# Altium footprint library 电声元件.PcbLib: 2 footprints
Each footprint in its own frame and in the unit in brackets; x right, y up, seen from the top. Pads: shape width x height; smd on the part's side, far side on the other; paste and mask are expansions set on the pad; w line width, h text height; cw(c..) or ccw(c..) is an arc to the next point about the centre after c.
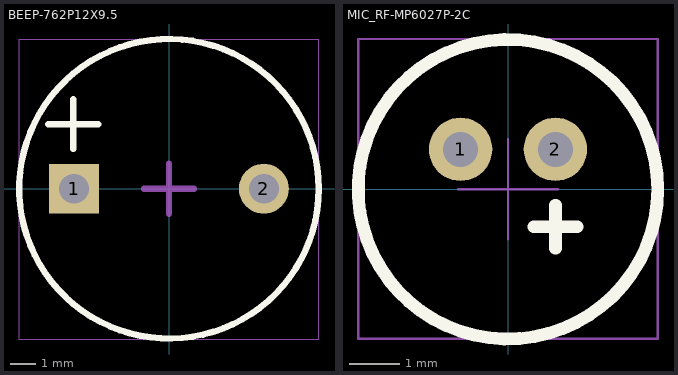
[diagram p0: the footprints below, top view; thin cyan lines are the x and y axes]

## BEEP-762P12X9.5 [mm] "7.62脚距，12x9.5蜂鸣器"
height 9.5
pads (2):
  rect 2x2 hole 1.2: 1(-3.8,0)
  round 2 hole 1.2: 2(3.8,0)
Top Overlay:
  circle w0.254: c0,0 r6
  lines w0.254: -4.835,2.591 -2.835,2.591 ; -3.835,1.591 -3.835,3.591
Mechanical 13:
  lines w0.05: -6,-6.02 -6,5.98 6,5.98 6,-6.02 -6,-6.02
Mechanical 15:
  lines w0.254: -1,0 1,0 ; 0,-1 0,1
3D body: height 9.8, standoff -4, extent -6,-6.02 6,5.98

## MIC_RF-MP6027P-2C [mm] "6.0*2.7mm全指向双电容咪头"
height 2.7
pads (2):
  round 1.27 hole 0.7: 1(-0.95,0.8) 2(0.95,0.8)
Top Overlay:
  circle w0.254: c0,0 r3
  lines w0.254: 0.518,-0.749 1.382,-0.749 ; 0.95,-1.181 0.95,-0.318
Mechanical 13:
  lines w0.05: -3,-2.99 -3,3.01 3,3.01 3,-2.99 -3,-2.99
Mechanical 15:
  lines w0.05: -1,0 1,0 ; 0,-1 0,1
3D body: height 2.8, standoff -3.04, extent -3,-2.99 3,3.01